# Altium schematic symbol library Converter_DCDC.SchLib: 658 symbols (part 2 of 7)
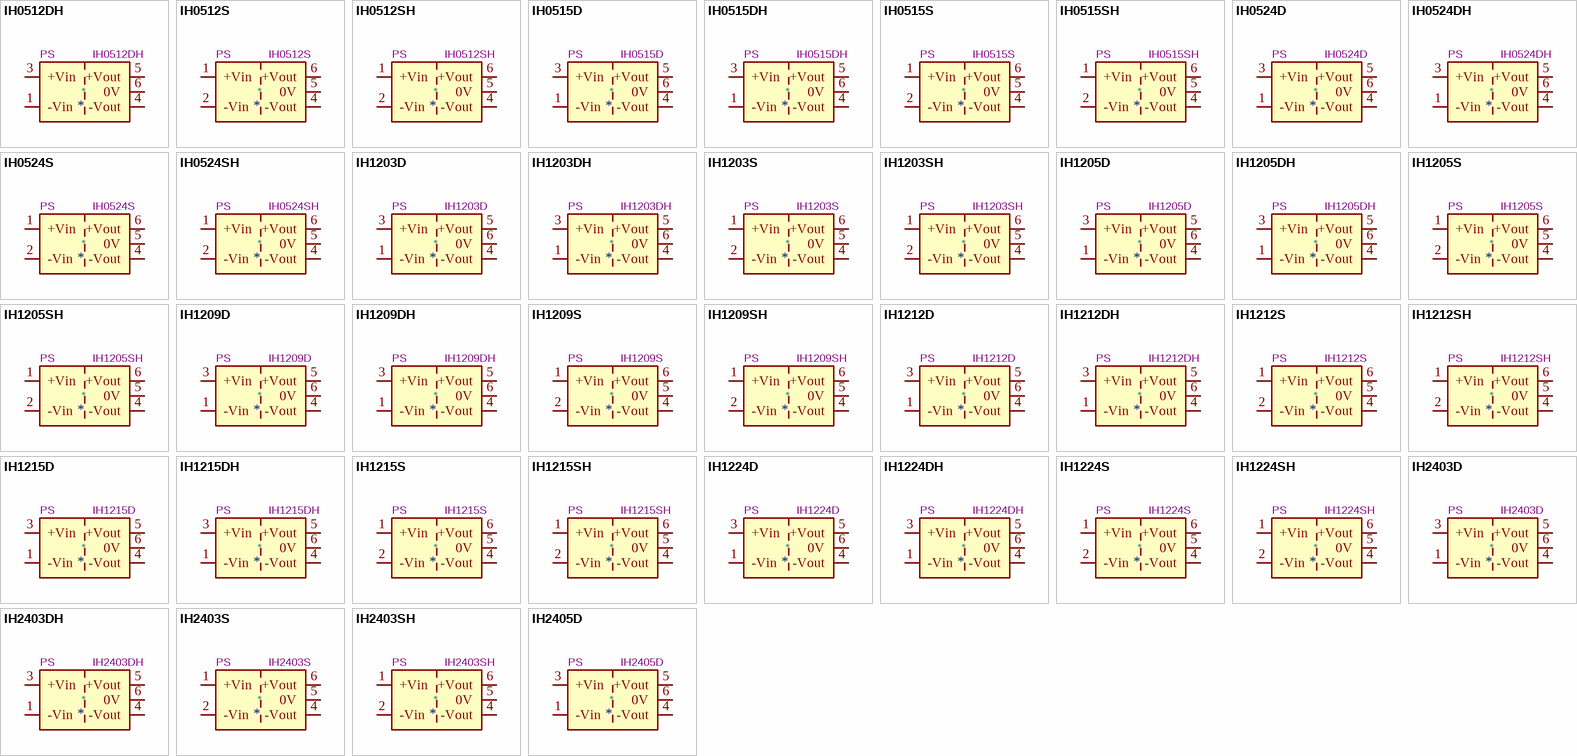
[diagram p17: symbols IH0512DH to IH2405D]

## IH1224DH
designator *  value IH1224DH  Reference: PS
ki_keywords: XP_POWER DC/DC isolated Converter module; ki_description: XP Power 2W, 3000-6000 VDC Isolated DC/DC Converter Module, Dual Output Voltage ±24V, ±42mA, 12V Input Voltage, DIP; ki_fp_filters: *XP?POWER?IHxxxxDH*; Footprint: Converter_DCDC:Converter_DCDC_XP_POWER-IHxxxxDH_THT; Datasheet: https://www.xppower.com/pdfs/SF_IH.pdf
pins: 1 -Vin, 2 NC hidden, 3 +Vin, 4 -Vout, 5 +Vout, 6 0V

## IH1224S
designator *  value IH1224S  Reference: PS
ki_keywords: XP_POWER DC/DC isolated Converter module; ki_description: XP Power 2W, 1000 VDC Isolated DC/DC Converter Module, Dual Output Voltage ±24V, ±42mA, 12V Input Voltage, SIP; ki_fp_filters: *XP?POWER?IHxxxxS*; Footprint: Converter_DCDC:Converter_DCDC_XP_POWER-IHxxxxS_THT; Datasheet: https://www.xppower.com/pdfs/SF_IH.pdf
pins: 1 +Vin, 2 -Vin, 4 -Vout, 5 0V, 6 +Vout

## IH1224SH
designator *  value IH1224SH  Reference: PS
ki_keywords: XP_POWER DC/DC isolated Converter module; ki_description: XP Power 2W, 3000-6000 VDC Isolated DC/DC Converter Module, Dual Output Voltage ±24V, ±42mA, 12V Input Voltage, SIP; ki_fp_filters: *XP?POWER?IHxxxxSH*; Footprint: Converter_DCDC:Converter_DCDC_XP_POWER-IHxxxxSH_THT; Datasheet: https://www.xppower.com/pdfs/SF_IH.pdf
pins: 1 +Vin, 2 -Vin, 4 -Vout, 5 0V, 6 +Vout

## IH2403D
designator *  value IH2403D  Reference: PS
ki_keywords: XP_POWER DC/DC isolated Converter module; ki_description: XP Power 2W, 1000 VDC Isolated DC/DC Converter Module, Dual Output Voltage ±3.3V, ±200mA, 24V Input Voltage, DIP; ki_fp_filters: *XP?POWER?IHxxxxD*; Footprint: Converter_DCDC:Converter_DCDC_XP_POWER-IHxxxxD_THT; Datasheet: https://www.xppower.com/pdfs/SF_IH.pdf
pins: 1 -Vin, 2 NC hidden, 3 +Vin, 4 -Vout, 5 +Vout, 6 0V

## IH2403DH
designator *  value IH2403DH  Reference: PS
ki_keywords: XP_POWER DC/DC isolated Converter module; ki_description: XP Power 2W, 3000-6000 VDC Isolated DC/DC Converter Module, Dual Output Voltage ±3.3V, ±200mA, 24V Input Voltage, DIP; ki_fp_filters: *XP?POWER?IHxxxxDH*; Footprint: Converter_DCDC:Converter_DCDC_XP_POWER-IHxxxxDH_THT; Datasheet: https://www.xppower.com/pdfs/SF_IH.pdf
pins: 1 -Vin, 2 NC hidden, 3 +Vin, 4 -Vout, 5 +Vout, 6 0V

## IH2403S
designator *  value IH2403S  Reference: PS
ki_keywords: XP_POWER DC/DC isolated Converter module; ki_description: XP Power 2W, 1000 VDC Isolated DC/DC Converter Module, Dual Output Voltage ±3.3V, ±200mA, 24V Input Voltage, SIP; ki_fp_filters: *XP?POWER?IHxxxxS*; Footprint: Converter_DCDC:Converter_DCDC_XP_POWER-IHxxxxS_THT; Datasheet: https://www.xppower.com/pdfs/SF_IH.pdf
pins: 1 +Vin, 2 -Vin, 4 -Vout, 5 0V, 6 +Vout

## IH2403SH
designator *  value IH2403SH  Reference: PS
ki_keywords: XP_POWER DC/DC isolated Converter module; ki_description: XP Power 2W, 3000-6000 VDC Isolated DC/DC Converter Module, Dual Output Voltage ±3.3V, ±200mA, 24V Input Voltage, SIP; ki_fp_filters: *XP?POWER?IHxxxxSH*; Footprint: Converter_DCDC:Converter_DCDC_XP_POWER-IHxxxxSH_THT; Datasheet: https://www.xppower.com/pdfs/SF_IH.pdf
pins: 1 +Vin, 2 -Vin, 4 -Vout, 5 0V, 6 +Vout

## IH2405D
designator *  value IH2405D  Reference: PS
ki_keywords: XP_POWER DC/DC isolated Converter module; ki_description: XP Power 2W, 1000 VDC Isolated DC/DC Converter Module, Dual Output Voltage ±5V, ±200mA, 24V Input Voltage, DIP; ki_fp_filters: *XP?POWER?IHxxxxD*; Footprint: Converter_DCDC:Converter_DCDC_XP_POWER-IHxxxxD_THT; Datasheet: https://www.xppower.com/pdfs/SF_IH.pdf
pins: 1 -Vin, 2 NC hidden, 3 +Vin, 4 -Vout, 5 +Vout, 6 0V

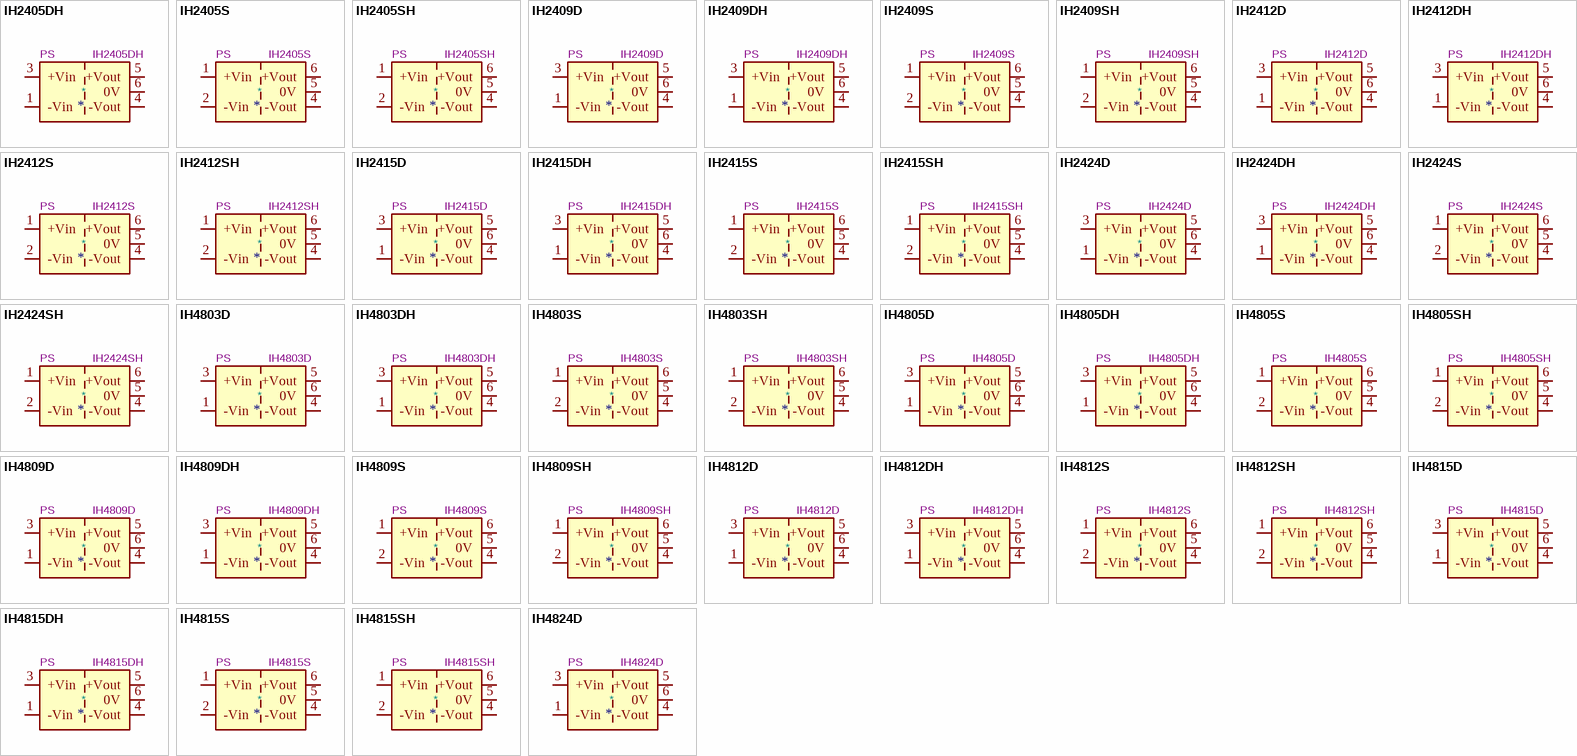
[diagram p3: symbols IH2405DH to IH4824D]

## IH2405DH
designator *  value IH2405DH  Reference: PS
ki_keywords: XP_POWER DC/DC isolated Converter module; ki_description: XP Power 2W, 3000-6000 VDC Isolated DC/DC Converter Module, Dual Output Voltage ±5V, ±200mA, 24V Input Voltage, DIP; ki_fp_filters: *XP?POWER?IHxxxxDH*; Footprint: Converter_DCDC:Converter_DCDC_XP_POWER-IHxxxxDH_THT; Datasheet: https://www.xppower.com/pdfs/SF_IH.pdf
pins: 1 -Vin, 2 NC hidden, 3 +Vin, 4 -Vout, 5 +Vout, 6 0V

## IH2405S
designator *  value IH2405S  Reference: PS
ki_keywords: XP_POWER DC/DC isolated Converter module; ki_description: XP Power 2W, 1000 VDC Isolated DC/DC Converter Module, Dual Output Voltage ±5V, ±200mA, 24V Input Voltage, SIP; ki_fp_filters: *XP?POWER?IHxxxxS*; Footprint: Converter_DCDC:Converter_DCDC_XP_POWER-IHxxxxS_THT; Datasheet: https://www.xppower.com/pdfs/SF_IH.pdf
pins: 1 +Vin, 2 -Vin, 4 -Vout, 5 0V, 6 +Vout

## IH2405SH
designator *  value IH2405SH  Reference: PS
ki_keywords: XP_POWER DC/DC isolated Converter module; ki_description: XP Power 2W, 3000-6000 VDC Isolated DC/DC Converter Module, Dual Output Voltage ±5V, ±200mA, 24V Input Voltage, SIP; ki_fp_filters: *XP?POWER?IHxxxxSH*; Footprint: Converter_DCDC:Converter_DCDC_XP_POWER-IHxxxxSH_THT; Datasheet: https://www.xppower.com/pdfs/SF_IH.pdf
pins: 1 +Vin, 2 -Vin, 4 -Vout, 5 0V, 6 +Vout

## IH2409D
designator *  value IH2409D  Reference: PS
ki_keywords: XP_POWER DC/DC isolated Converter module; ki_description: XP Power 2W, 1000 VDC Isolated DC/DC Converter Module, Dual Output Voltage ±9V, ±111mA, 24V Input Voltage, DIP; ki_fp_filters: *XP?POWER?IHxxxxD*; Footprint: Converter_DCDC:Converter_DCDC_XP_POWER-IHxxxxD_THT; Datasheet: https://www.xppower.com/pdfs/SF_IH.pdf
pins: 1 -Vin, 2 NC hidden, 3 +Vin, 4 -Vout, 5 +Vout, 6 0V

## IH2409DH
designator *  value IH2409DH  Reference: PS
ki_keywords: XP_POWER DC/DC isolated Converter module; ki_description: XP Power 2W, 3000-6000 VDC Isolated DC/DC Converter Module, Dual Output Voltage ±9V, ±111mA, 24V Input Voltage, DIP; ki_fp_filters: *XP?POWER?IHxxxxDH*; Footprint: Converter_DCDC:Converter_DCDC_XP_POWER-IHxxxxDH_THT; Datasheet: https://www.xppower.com/pdfs/SF_IH.pdf
pins: 1 -Vin, 2 NC hidden, 3 +Vin, 4 -Vout, 5 +Vout, 6 0V

## IH2409S
designator *  value IH2409S  Reference: PS
ki_keywords: XP_POWER DC/DC isolated Converter module; ki_description: XP Power 2W, 1000 VDC Isolated DC/DC Converter Module, Dual Output Voltage ±9V, ±111mA, 24V Input Voltage, SIP; ki_fp_filters: *XP?POWER?IHxxxxS*; Footprint: Converter_DCDC:Converter_DCDC_XP_POWER-IHxxxxS_THT; Datasheet: https://www.xppower.com/pdfs/SF_IH.pdf
pins: 1 +Vin, 2 -Vin, 4 -Vout, 5 0V, 6 +Vout

## IH2409SH
designator *  value IH2409SH  Reference: PS
ki_keywords: XP_POWER DC/DC isolated Converter module; ki_description: XP Power 2W, 3000-6000 VDC Isolated DC/DC Converter Module, Dual Output Voltage ±9V, ±111mA, 24V Input Voltage, SIP; ki_fp_filters: *XP?POWER?IHxxxxSH*; Footprint: Converter_DCDC:Converter_DCDC_XP_POWER-IHxxxxSH_THT; Datasheet: https://www.xppower.com/pdfs/SF_IH.pdf
pins: 1 +Vin, 2 -Vin, 4 -Vout, 5 0V, 6 +Vout

## IH2412D
designator *  value IH2412D  Reference: PS
ki_keywords: XP_POWER DC/DC isolated Converter module; ki_description: XP Power 2W, 1000 VDC Isolated DC/DC Converter Module, Dual Output Voltage ±12V, ±84mA, 24V Input Voltage, DIP; ki_fp_filters: *XP?POWER?IHxxxxD*; Footprint: Converter_DCDC:Converter_DCDC_XP_POWER-IHxxxxD_THT; Datasheet: https://www.xppower.com/pdfs/SF_IH.pdf
pins: 1 -Vin, 2 NC hidden, 3 +Vin, 4 -Vout, 5 +Vout, 6 0V

## IH2412DH
designator *  value IH2412DH  Reference: PS
ki_keywords: XP_POWER DC/DC isolated Converter module; ki_description: XP Power 2W, 3000-6000 VDC Isolated DC/DC Converter Module, Dual Output Voltage ±12V, ±84mA, 24V Input Voltage, DIP; ki_fp_filters: *XP?POWER?IHxxxxDH*; Footprint: Converter_DCDC:Converter_DCDC_XP_POWER-IHxxxxDH_THT; Datasheet: https://www.xppower.com/pdfs/SF_IH.pdf
pins: 1 -Vin, 2 NC hidden, 3 +Vin, 4 -Vout, 5 +Vout, 6 0V

## IH2412S
designator *  value IH2412S  Reference: PS
ki_keywords: XP_POWER DC/DC isolated Converter module; ki_description: XP Power 2W, 1000 VDC Isolated DC/DC Converter Module, Dual Output Voltage ±12V, ±84mA, 24V Input Voltage, SIP; ki_fp_filters: *XP?POWER?IHxxxxS*; Footprint: Converter_DCDC:Converter_DCDC_XP_POWER-IHxxxxS_THT; Datasheet: https://www.xppower.com/pdfs/SF_IH.pdf
pins: 1 +Vin, 2 -Vin, 4 -Vout, 5 0V, 6 +Vout

## IH2412SH
designator *  value IH2412SH  Reference: PS
ki_keywords: XP_POWER DC/DC isolated Converter module; ki_description: XP Power 2W, 3000-6000 VDC Isolated DC/DC Converter Module, Dual Output Voltage ±12V, ±84mA, 24V Input Voltage, SIP; ki_fp_filters: *XP?POWER?IHxxxxSH*; Footprint: Converter_DCDC:Converter_DCDC_XP_POWER-IHxxxxSH_THT; Datasheet: https://www.xppower.com/pdfs/SF_IH.pdf
pins: 1 +Vin, 2 -Vin, 4 -Vout, 5 0V, 6 +Vout

## IH2415D
designator *  value IH2415D  Reference: PS
ki_keywords: XP_POWER DC/DC isolated Converter module; ki_description: XP Power 2W, 1000 VDC Isolated DC/DC Converter Module, Dual Output Voltage ±15V, ±66mA, 24V Input Voltage, DIP; ki_fp_filters: *XP?POWER?IHxxxxD*; Footprint: Converter_DCDC:Converter_DCDC_XP_POWER-IHxxxxD_THT; Datasheet: https://www.xppower.com/pdfs/SF_IH.pdf
pins: 1 -Vin, 2 NC hidden, 3 +Vin, 4 -Vout, 5 +Vout, 6 0V

## IH2415DH
designator *  value IH2415DH  Reference: PS
ki_keywords: XP_POWER DC/DC isolated Converter module; ki_description: XP Power 2W, 3000-6000 VDC Isolated DC/DC Converter Module, Dual Output Voltage ±15V, ±66mA, 24V Input Voltage, DIP; ki_fp_filters: *XP?POWER?IHxxxxDH*; Footprint: Converter_DCDC:Converter_DCDC_XP_POWER-IHxxxxDH_THT; Datasheet: https://www.xppower.com/pdfs/SF_IH.pdf
pins: 1 -Vin, 2 NC hidden, 3 +Vin, 4 -Vout, 5 +Vout, 6 0V

## IH2415S
designator *  value IH2415S  Reference: PS
ki_keywords: XP_POWER DC/DC isolated Converter module; ki_description: XP Power 2W, 1000 VDC Isolated DC/DC Converter Module, Dual Output Voltage ±15V, ±66mA, 24V Input Voltage, SIP; ki_fp_filters: *XP?POWER?IHxxxxS*; Footprint: Converter_DCDC:Converter_DCDC_XP_POWER-IHxxxxS_THT; Datasheet: https://www.xppower.com/pdfs/SF_IH.pdf
pins: 1 +Vin, 2 -Vin, 4 -Vout, 5 0V, 6 +Vout

## IH2415SH
designator *  value IH2415SH  Reference: PS
ki_keywords: XP_POWER DC/DC isolated Converter module; ki_description: XP Power 2W, 3000-6000 VDC Isolated DC/DC Converter Module, Dual Output Voltage ±15V, ±66mA, 24V Input Voltage, SIP; ki_fp_filters: *XP?POWER?IHxxxxSH*; Footprint: Converter_DCDC:Converter_DCDC_XP_POWER-IHxxxxSH_THT; Datasheet: https://www.xppower.com/pdfs/SF_IH.pdf
pins: 1 +Vin, 2 -Vin, 4 -Vout, 5 0V, 6 +Vout

## IH2424D
designator *  value IH2424D  Reference: PS
ki_keywords: XP_POWER DC/DC isolated Converter module; ki_description: XP Power 2W, 1000 VDC Isolated DC/DC Converter Module, Dual Output Voltage ±24V, ±42mA, 24V Input Voltage, DIP; ki_fp_filters: *XP?POWER?IHxxxxD*; Footprint: Converter_DCDC:Converter_DCDC_XP_POWER-IHxxxxD_THT; Datasheet: https://www.xppower.com/pdfs/SF_IH.pdf
pins: 1 -Vin, 2 NC hidden, 3 +Vin, 4 -Vout, 5 +Vout, 6 0V

## IH2424DH
designator *  value IH2424DH  Reference: PS
ki_keywords: XP_POWER DC/DC isolated Converter module; ki_description: XP Power 2W, 3000-6000 VDC Isolated DC/DC Converter Module, Dual Output Voltage ±24V, ±42mA, 24V Input Voltage, DIP; ki_fp_filters: *XP?POWER?IHxxxxDH*; Footprint: Converter_DCDC:Converter_DCDC_XP_POWER-IHxxxxDH_THT; Datasheet: https://www.xppower.com/pdfs/SF_IH.pdf
pins: 1 -Vin, 2 NC hidden, 3 +Vin, 4 -Vout, 5 +Vout, 6 0V

## IH2424S
designator *  value IH2424S  Reference: PS
ki_keywords: XP_POWER DC/DC isolated Converter module; ki_description: XP Power 2W, 1000 VDC Isolated DC/DC Converter Module, Dual Output Voltage ±24V, ±42mA, 24V Input Voltage, SIP; ki_fp_filters: *XP?POWER?IHxxxxS*; Footprint: Converter_DCDC:Converter_DCDC_XP_POWER-IHxxxxS_THT; Datasheet: https://www.xppower.com/pdfs/SF_IH.pdf
pins: 1 +Vin, 2 -Vin, 4 -Vout, 5 0V, 6 +Vout

## IH2424SH
designator *  value IH2424SH  Reference: PS
ki_keywords: XP_POWER DC/DC isolated Converter module; ki_description: XP Power 2W, 3000-6000 VDC Isolated DC/DC Converter Module, Dual Output Voltage ±24V, ±42mA, 24V Input Voltage, SIP; ki_fp_filters: *XP?POWER?IHxxxxSH*; Footprint: Converter_DCDC:Converter_DCDC_XP_POWER-IHxxxxSH_THT; Datasheet: https://www.xppower.com/pdfs/SF_IH.pdf
pins: 1 +Vin, 2 -Vin, 4 -Vout, 5 0V, 6 +Vout

## IH4803D
designator *  value IH4803D  Reference: PS
ki_keywords: XP_POWER DC/DC isolated Converter module; ki_description: XP Power 2W, 1000 VDC Isolated DC/DC Converter Module, Dual Output Voltage ±3.3V, ±200mA, 48V Input Voltage, DIP; ki_fp_filters: *XP?POWER?IHxxxxD*; Footprint: Converter_DCDC:Converter_DCDC_XP_POWER-IHxxxxD_THT; Datasheet: https://www.xppower.com/pdfs/SF_IH.pdf
pins: 1 -Vin, 2 NC hidden, 3 +Vin, 4 -Vout, 5 +Vout, 6 0V

## IH4803DH
designator *  value IH4803DH  Reference: PS
ki_keywords: XP_POWER DC/DC isolated Converter module; ki_description: XP Power 2W, 3000-6000 VDC Isolated DC/DC Converter Module, Dual Output Voltage ±3.3V, ±200mA, 48V Input Voltage, DIP; ki_fp_filters: *XP?POWER?IHxxxxDH*; Footprint: Converter_DCDC:Converter_DCDC_XP_POWER-IHxxxxDH_THT; Datasheet: https://www.xppower.com/pdfs/SF_IH.pdf
pins: 1 -Vin, 2 NC hidden, 3 +Vin, 4 -Vout, 5 +Vout, 6 0V

## IH4803S
designator *  value IH4803S  Reference: PS
ki_keywords: XP_POWER DC/DC isolated Converter module; ki_description: XP Power 2W, 1000 VDC Isolated DC/DC Converter Module, Dual Output Voltage ±3.3V, ±200mA, 48V Input Voltage, SIP; ki_fp_filters: *XP?POWER?IHxxxxS*; Footprint: Converter_DCDC:Converter_DCDC_XP_POWER-IHxxxxS_THT; Datasheet: https://www.xppower.com/pdfs/SF_IH.pdf
pins: 1 +Vin, 2 -Vin, 4 -Vout, 5 0V, 6 +Vout

## IH4803SH
designator *  value IH4803SH  Reference: PS
ki_keywords: XP_POWER DC/DC isolated Converter module; ki_description: XP Power 2W, 3000-6000 VDC Isolated DC/DC Converter Module, Dual Output Voltage ±3.3V, ±200mA, 48V Input Voltage, SIP; ki_fp_filters: *XP?POWER?IHxxxxSH*; Footprint: Converter_DCDC:Converter_DCDC_XP_POWER-IHxxxxSH_THT; Datasheet: https://www.xppower.com/pdfs/SF_IH.pdf
pins: 1 +Vin, 2 -Vin, 4 -Vout, 5 0V, 6 +Vout

## IH4805D
designator *  value IH4805D  Reference: PS
ki_keywords: XP_POWER DC/DC isolated Converter module; ki_description: XP Power 2W, 1000 VDC Isolated DC/DC Converter Module, Dual Output Voltage ±5V, ±200mA, 48V Input Voltage, DIP; ki_fp_filters: *XP?POWER?IHxxxxD*; Footprint: Converter_DCDC:Converter_DCDC_XP_POWER-IHxxxxD_THT; Datasheet: https://www.xppower.com/pdfs/SF_IH.pdf
pins: 1 -Vin, 2 NC hidden, 3 +Vin, 4 -Vout, 5 +Vout, 6 0V

## IH4805DH
designator *  value IH4805DH  Reference: PS
ki_keywords: XP_POWER DC/DC isolated Converter module; ki_description: XP Power 2W, 3000-6000 VDC Isolated DC/DC Converter Module, Dual Output Voltage ±5V, ±200mA, 48V Input Voltage, DIP; ki_fp_filters: *XP?POWER?IHxxxxDH*; Footprint: Converter_DCDC:Converter_DCDC_XP_POWER-IHxxxxDH_THT; Datasheet: https://www.xppower.com/pdfs/SF_IH.pdf
pins: 1 -Vin, 2 NC hidden, 3 +Vin, 4 -Vout, 5 +Vout, 6 0V

## IH4805S
designator *  value IH4805S  Reference: PS
ki_keywords: XP_POWER DC/DC isolated Converter module; ki_description: XP Power 2W, 1000 VDC Isolated DC/DC Converter Module, Dual Output Voltage ±5V, ±200mA, 48V Input Voltage, SIP; ki_fp_filters: *XP?POWER?IHxxxxS*; Footprint: Converter_DCDC:Converter_DCDC_XP_POWER-IHxxxxS_THT; Datasheet: https://www.xppower.com/pdfs/SF_IH.pdf
pins: 1 +Vin, 2 -Vin, 4 -Vout, 5 0V, 6 +Vout

## IH4805SH
designator *  value IH4805SH  Reference: PS
ki_keywords: XP_POWER DC/DC isolated Converter module; ki_description: XP Power 2W, 3000-6000 VDC Isolated DC/DC Converter Module, Dual Output Voltage ±5V, ±200mA, 48V Input Voltage, SIP; ki_fp_filters: *XP?POWER?IHxxxxSH*; Footprint: Converter_DCDC:Converter_DCDC_XP_POWER-IHxxxxSH_THT; Datasheet: https://www.xppower.com/pdfs/SF_IH.pdf
pins: 1 +Vin, 2 -Vin, 4 -Vout, 5 0V, 6 +Vout

## IH4809D
designator *  value IH4809D  Reference: PS
ki_keywords: XP_POWER DC/DC isolated Converter module; ki_description: XP Power 2W, 1000 VDC Isolated DC/DC Converter Module, Dual Output Voltage ±9V, ±111mA, 48V Input Voltage, DIP; ki_fp_filters: *XP?POWER?IHxxxxD*; Footprint: Converter_DCDC:Converter_DCDC_XP_POWER-IHxxxxD_THT; Datasheet: https://www.xppower.com/pdfs/SF_IH.pdf
pins: 1 -Vin, 2 NC hidden, 3 +Vin, 4 -Vout, 5 +Vout, 6 0V

## IH4809DH
designator *  value IH4809DH  Reference: PS
ki_keywords: XP_POWER DC/DC isolated Converter module; ki_description: XP Power 2W, 3000-6000 VDC Isolated DC/DC Converter Module, Dual Output Voltage ±9V, ±111mA, 48V Input Voltage, DIP; ki_fp_filters: *XP?POWER?IHxxxxDH*; Footprint: Converter_DCDC:Converter_DCDC_XP_POWER-IHxxxxDH_THT; Datasheet: https://www.xppower.com/pdfs/SF_IH.pdf
pins: 1 -Vin, 2 NC hidden, 3 +Vin, 4 -Vout, 5 +Vout, 6 0V

## IH4809S
designator *  value IH4809S  Reference: PS
ki_keywords: XP_POWER DC/DC isolated Converter module; ki_description: XP Power 2W, 1000 VDC Isolated DC/DC Converter Module, Dual Output Voltage ±9V, ±111mA, 48V Input Voltage, SIP; ki_fp_filters: *XP?POWER?IHxxxxS*; Footprint: Converter_DCDC:Converter_DCDC_XP_POWER-IHxxxxS_THT; Datasheet: https://www.xppower.com/pdfs/SF_IH.pdf
pins: 1 +Vin, 2 -Vin, 4 -Vout, 5 0V, 6 +Vout

## IH4809SH
designator *  value IH4809SH  Reference: PS
ki_keywords: XP_POWER DC/DC isolated Converter module; ki_description: XP Power 2W, 3000-6000 VDC Isolated DC/DC Converter Module, Dual Output Voltage ±9V, ±111mA, 48V Input Voltage, SIP; ki_fp_filters: *XP?POWER?IHxxxxSH*; Footprint: Converter_DCDC:Converter_DCDC_XP_POWER-IHxxxxSH_THT; Datasheet: https://www.xppower.com/pdfs/SF_IH.pdf
pins: 1 +Vin, 2 -Vin, 4 -Vout, 5 0V, 6 +Vout

## IH4812D
designator *  value IH4812D  Reference: PS
ki_keywords: XP_POWER DC/DC isolated Converter module; ki_description: XP Power 2W, 1000 VDC Isolated DC/DC Converter Module, Dual Output Voltage ±12V, ±84mA, 48V Input Voltage, DIP; ki_fp_filters: *XP?POWER?IHxxxxD*; Footprint: Converter_DCDC:Converter_DCDC_XP_POWER-IHxxxxD_THT; Datasheet: https://www.xppower.com/pdfs/SF_IH.pdf
pins: 1 -Vin, 2 NC hidden, 3 +Vin, 4 -Vout, 5 +Vout, 6 0V

## IH4812DH
designator *  value IH4812DH  Reference: PS
ki_keywords: XP_POWER DC/DC isolated Converter module; ki_description: XP Power 2W, 3000-6000 VDC Isolated DC/DC Converter Module, Dual Output Voltage ±12V, ±84mA, 48V Input Voltage, DIP; ki_fp_filters: *XP?POWER?IHxxxxDH*; Footprint: Converter_DCDC:Converter_DCDC_XP_POWER-IHxxxxDH_THT; Datasheet: https://www.xppower.com/pdfs/SF_IH.pdf
pins: 1 -Vin, 2 NC hidden, 3 +Vin, 4 -Vout, 5 +Vout, 6 0V

## IH4812S
designator *  value IH4812S  Reference: PS
ki_keywords: XP_POWER DC/DC isolated Converter module; ki_description: XP Power 2W, 1000 VDC Isolated DC/DC Converter Module, Dual Output Voltage ±12V, ±84mA, 48V Input Voltage, SIP; ki_fp_filters: *XP?POWER?IHxxxxS*; Footprint: Converter_DCDC:Converter_DCDC_XP_POWER-IHxxxxS_THT; Datasheet: https://www.xppower.com/pdfs/SF_IH.pdf
pins: 1 +Vin, 2 -Vin, 4 -Vout, 5 0V, 6 +Vout

## IH4812SH
designator *  value IH4812SH  Reference: PS
ki_keywords: XP_POWER DC/DC isolated Converter module; ki_description: XP Power 2W, 3000-6000 VDC Isolated DC/DC Converter Module, Dual Output Voltage ±12V, ±84mA, 48V Input Voltage, SIP; ki_fp_filters: *XP?POWER?IHxxxxSH*; Footprint: Converter_DCDC:Converter_DCDC_XP_POWER-IHxxxxSH_THT; Datasheet: https://www.xppower.com/pdfs/SF_IH.pdf
pins: 1 +Vin, 2 -Vin, 4 -Vout, 5 0V, 6 +Vout

## IH4815D
designator *  value IH4815D  Reference: PS
ki_keywords: XP_POWER DC/DC isolated Converter module; ki_description: XP Power 2W, 1000 VDC Isolated DC/DC Converter Module, Dual Output Voltage ±15V, ±66mA, 48V Input Voltage, DIP; ki_fp_filters: *XP?POWER?IHxxxxD*; Footprint: Converter_DCDC:Converter_DCDC_XP_POWER-IHxxxxD_THT; Datasheet: https://www.xppower.com/pdfs/SF_IH.pdf
pins: 1 -Vin, 2 NC hidden, 3 +Vin, 4 -Vout, 5 +Vout, 6 0V

## IH4815DH
designator *  value IH4815DH  Reference: PS
ki_keywords: XP_POWER DC/DC isolated Converter module; ki_description: XP Power 2W, 3000-6000 VDC Isolated DC/DC Converter Module, Dual Output Voltage ±15V, ±66mA, 48V Input Voltage, DIP; ki_fp_filters: *XP?POWER?IHxxxxDH*; Footprint: Converter_DCDC:Converter_DCDC_XP_POWER-IHxxxxDH_THT; Datasheet: https://www.xppower.com/pdfs/SF_IH.pdf
pins: 1 -Vin, 2 NC hidden, 3 +Vin, 4 -Vout, 5 +Vout, 6 0V

## IH4815S
designator *  value IH4815S  Reference: PS
ki_keywords: XP_POWER DC/DC isolated Converter module; ki_description: XP Power 2W, 1000 VDC Isolated DC/DC Converter Module, Dual Output Voltage ±15V, ±66mA, 48V Input Voltage, SIP; ki_fp_filters: *XP?POWER?IHxxxxS*; Footprint: Converter_DCDC:Converter_DCDC_XP_POWER-IHxxxxS_THT; Datasheet: https://www.xppower.com/pdfs/SF_IH.pdf
pins: 1 +Vin, 2 -Vin, 4 -Vout, 5 0V, 6 +Vout

## IH4815SH
designator *  value IH4815SH  Reference: PS
ki_keywords: XP_POWER DC/DC isolated Converter module; ki_description: XP Power 2W, 3000-6000 VDC Isolated DC/DC Converter Module, Dual Output Voltage ±15V, ±66mA, 48V Input Voltage, SIP; ki_fp_filters: *XP?POWER?IHxxxxSH*; Footprint: Converter_DCDC:Converter_DCDC_XP_POWER-IHxxxxSH_THT; Datasheet: https://www.xppower.com/pdfs/SF_IH.pdf
pins: 1 +Vin, 2 -Vin, 4 -Vout, 5 0V, 6 +Vout

## IH4824D
designator *  value IH4824D  Reference: PS
ki_keywords: XP_POWER DC/DC isolated Converter module; ki_description: XP Power 2W, 1000 VDC Isolated DC/DC Converter Module, Dual Output Voltage ±24V, ±42mA, 48V Input Voltage, DIP; ki_fp_filters: *XP?POWER?IHxxxxD*; Footprint: Converter_DCDC:Converter_DCDC_XP_POWER-IHxxxxD_THT; Datasheet: https://www.xppower.com/pdfs/SF_IH.pdf
pins: 1 -Vin, 2 NC hidden, 3 +Vin, 4 -Vout, 5 +Vout, 6 0V

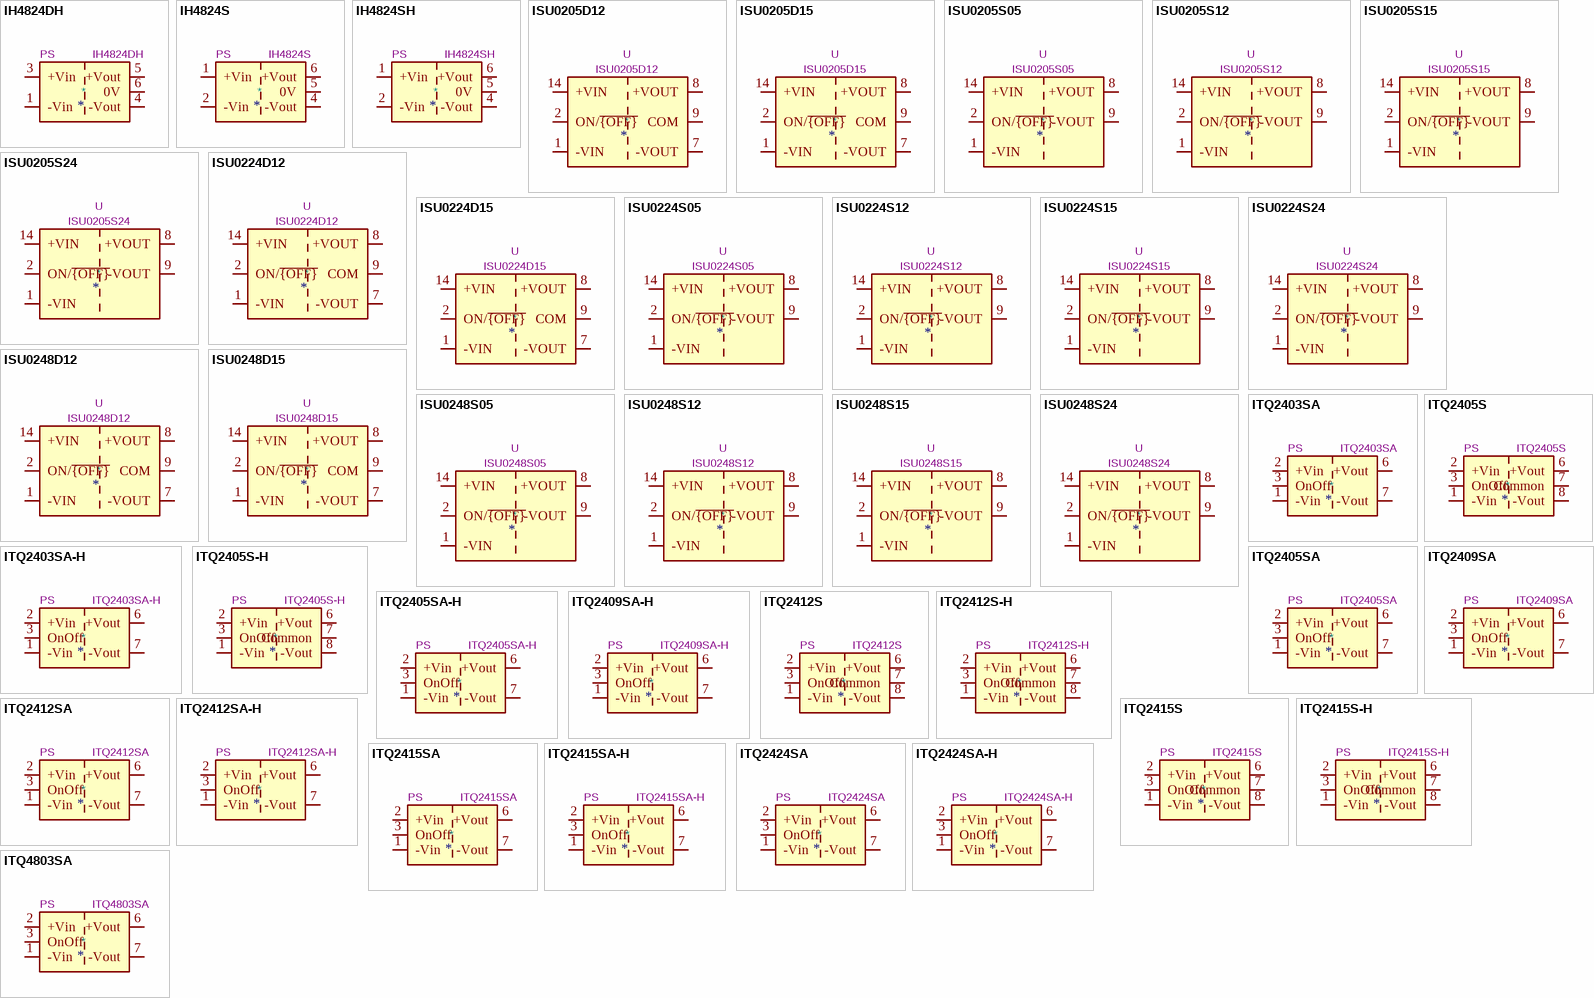
[diagram p4: symbols IH4824DH to ITQ4803SA]

## IH4824DH
designator *  value IH4824DH  Reference: PS
ki_keywords: XP_POWER DC/DC isolated Converter module; ki_description: XP Power 2W, 3000-6000 VDC Isolated DC/DC Converter Module, Dual Output Voltage ±24V, ±42mA, 48V Input Voltage, DIP; ki_fp_filters: *XP?POWER?IHxxxxDH*; Footprint: Converter_DCDC:Converter_DCDC_XP_POWER-IHxxxxDH_THT; Datasheet: https://www.xppower.com/pdfs/SF_IH.pdf
pins: 1 -Vin, 2 NC hidden, 3 +Vin, 4 -Vout, 5 +Vout, 6 0V

## IH4824S
designator *  value IH4824S  Reference: PS
ki_keywords: XP_POWER DC/DC isolated Converter module; ki_description: XP Power 2W, 1000 VDC Isolated DC/DC Converter Module, Dual Output Voltage ±24V, ±42mA, 48V Input Voltage, SIP; ki_fp_filters: *XP?POWER?IHxxxxS*; Footprint: Converter_DCDC:Converter_DCDC_XP_POWER-IHxxxxS_THT; Datasheet: https://www.xppower.com/pdfs/SF_IH.pdf
pins: 1 +Vin, 2 -Vin, 4 -Vout, 5 0V, 6 +Vout

## IH4824SH
designator *  value IH4824SH  Reference: PS
ki_keywords: XP_POWER DC/DC isolated Converter module; ki_description: XP Power 2W, 3000-6000 VDC Isolated DC/DC Converter Module, Dual Output Voltage ±24V, ±42mA, 48V Input Voltage, SIP; ki_fp_filters: *XP?POWER?IHxxxxSH*; Footprint: Converter_DCDC:Converter_DCDC_XP_POWER-IHxxxxSH_THT; Datasheet: https://www.xppower.com/pdfs/SF_IH.pdf
pins: 1 +Vin, 2 -Vin, 4 -Vout, 5 0V, 6 +Vout

## ISU0205D12
designator *  value ISU0205D12  Reference: U
ki_keywords: DC/DC Converter dual; ki_description: XP Power 2W Isolated DC/DC Dual Supply Converter Module, ±12V Output Voltage, 4.5-12V Input Voltage; ki_fp_filters: *XP?POWER*ISU02*SMD*; Footprint: Converter_DCDC:Converter_DCDC_XP_POWER-ISU02_SMD; Datasheet: https://www.xppower.com/Portals/0/pdfs/SF_ISU02.pdf
pins: 1 -VIN, 2 ON/~{{OFF}}, 6 COM hidden, 7 -VOUT, 8 +VOUT, 9 COM, 14 +VIN

## ISU0205D15
designator *  value ISU0205D15  Reference: U
ki_keywords: DC/DC Converter dual; ki_description: XP Power 2W Isolated DC/DC Dual Supply Converter Module, ±15V Output Voltage, 4.5-12V Input Voltage; ki_fp_filters: *XP?POWER*ISU02*SMD*; Footprint: Converter_DCDC:Converter_DCDC_XP_POWER-ISU02_SMD; Datasheet: https://www.xppower.com/Portals/0/pdfs/SF_ISU02.pdf
pins: 1 -VIN, 2 ON/~{{OFF}}, 6 COM hidden, 7 -VOUT, 8 +VOUT, 9 COM, 14 +VIN

## ISU0205S05
designator *  value ISU0205S05  Reference: U
ki_keywords: DC/DC Converter; ki_description: XP Power 2W Isolated DC/DC Converter Module, 5V Output Voltage, 4.5-12V Input Voltage; ki_fp_filters: *XP?POWER*ISU02*SMD*; Footprint: Converter_DCDC:Converter_DCDC_XP_POWER-ISU02_SMD; Datasheet: https://www.xppower.com/Portals/0/pdfs/SF_ISU02.pdf
pins: 1 -VIN, 2 ON/~{{OFF}}, 6 NC hidden, 7 NC hidden, 8 +VOUT, 9 -VOUT, 14 +VIN

## ISU0205S12
designator *  value ISU0205S12  Reference: U
ki_keywords: DC/DC Converter; ki_description: XP Power 2W Isolated DC/DC Converter Module, 12V Output Voltage, 4.5-12V Input Voltage; ki_fp_filters: *XP?POWER*ISU02*SMD*; Footprint: Converter_DCDC:Converter_DCDC_XP_POWER-ISU02_SMD; Datasheet: https://www.xppower.com/Portals/0/pdfs/SF_ISU02.pdf
pins: 1 -VIN, 2 ON/~{{OFF}}, 6 NC hidden, 7 NC hidden, 8 +VOUT, 9 -VOUT, 14 +VIN

## ISU0205S15
designator *  value ISU0205S15  Reference: U
ki_keywords: DC/DC Converter; ki_description: XP Power 2W Isolated DC/DC Converter Module, 15V Output Voltage, 4.5-12V Input Voltage; ki_fp_filters: *XP?POWER*ISU02*SMD*; Footprint: Converter_DCDC:Converter_DCDC_XP_POWER-ISU02_SMD; Datasheet: https://www.xppower.com/Portals/0/pdfs/SF_ISU02.pdf
pins: 1 -VIN, 2 ON/~{{OFF}}, 6 NC hidden, 7 NC hidden, 8 +VOUT, 9 -VOUT, 14 +VIN

## ISU0205S24
designator *  value ISU0205S24  Reference: U
ki_keywords: DC/DC Converter; ki_description: XP Power 2W Isolated DC/DC Converter Module, 24V Output Voltage, 4.5-12V Input Voltage; ki_fp_filters: *XP?POWER*ISU02*SMD*; Footprint: Converter_DCDC:Converter_DCDC_XP_POWER-ISU02_SMD; Datasheet: https://www.xppower.com/Portals/0/pdfs/SF_ISU02.pdf
pins: 1 -VIN, 2 ON/~{{OFF}}, 6 NC hidden, 7 NC hidden, 8 +VOUT, 9 -VOUT, 14 +VIN

## ISU0224D12
designator *  value ISU0224D12  Reference: U
ki_keywords: DC/DC Converter dual; ki_description: XP Power 2W Isolated DC/DC Dual Supply Converter Module, ±12V Output Voltage, 9-36V Input Voltage; ki_fp_filters: *XP?POWER*ISU02*SMD*; Footprint: Converter_DCDC:Converter_DCDC_XP_POWER-ISU02_SMD; Datasheet: https://www.xppower.com/Portals/0/pdfs/SF_ISU02.pdf
pins: 1 -VIN, 2 ON/~{{OFF}}, 6 COM hidden, 7 -VOUT, 8 +VOUT, 9 COM, 14 +VIN

## ISU0224D15
designator *  value ISU0224D15  Reference: U
ki_keywords: DC/DC Converter dual; ki_description: XP Power 2W Isolated DC/DC Dual Supply Converter Module, ±15V Output Voltage, 9-36V Input Voltage; ki_fp_filters: *XP?POWER*ISU02*SMD*; Footprint: Converter_DCDC:Converter_DCDC_XP_POWER-ISU02_SMD; Datasheet: https://www.xppower.com/Portals/0/pdfs/SF_ISU02.pdf
pins: 1 -VIN, 2 ON/~{{OFF}}, 6 COM hidden, 7 -VOUT, 8 +VOUT, 9 COM, 14 +VIN

## ISU0224S05
designator *  value ISU0224S05  Reference: U
ki_keywords: DC/DC Converter; ki_description: XP Power 2W Isolated DC/DC Converter Module, 5V Output Voltage, 9-36V Input Voltage; ki_fp_filters: *XP?POWER*ISU02*SMD*; Footprint: Converter_DCDC:Converter_DCDC_XP_POWER-ISU02_SMD; Datasheet: https://www.xppower.com/Portals/0/pdfs/SF_ISU02.pdf
pins: 1 -VIN, 2 ON/~{{OFF}}, 6 NC hidden, 7 NC hidden, 8 +VOUT, 9 -VOUT, 14 +VIN

## ISU0224S12
designator *  value ISU0224S12  Reference: U
ki_keywords: DC/DC Converter; ki_description: XP Power 2W Isolated DC/DC Converter Module, 12V Output Voltage, 9-36V Input Voltage; ki_fp_filters: *XP?POWER*ISU02*SMD*; Footprint: Converter_DCDC:Converter_DCDC_XP_POWER-ISU02_SMD; Datasheet: https://www.xppower.com/Portals/0/pdfs/SF_ISU02.pdf
pins: 1 -VIN, 2 ON/~{{OFF}}, 6 NC hidden, 7 NC hidden, 8 +VOUT, 9 -VOUT, 14 +VIN

## ISU0224S15
designator *  value ISU0224S15  Reference: U
ki_keywords: DC/DC Converter; ki_description: XP Power 2W Isolated DC/DC Converter Module, 15V Output Voltage, 9-36V Input Voltage; ki_fp_filters: *XP?POWER*ISU02*SMD*; Footprint: Converter_DCDC:Converter_DCDC_XP_POWER-ISU02_SMD; Datasheet: https://www.xppower.com/Portals/0/pdfs/SF_ISU02.pdf
pins: 1 -VIN, 2 ON/~{{OFF}}, 6 NC hidden, 7 NC hidden, 8 +VOUT, 9 -VOUT, 14 +VIN

## ISU0224S24
designator *  value ISU0224S24  Reference: U
ki_keywords: DC/DC Converter; ki_description: XP Power 2W Isolated DC/DC Converter Module, 24V Output Voltage, 9-36V Input Voltage; ki_fp_filters: *XP?POWER*ISU02*SMD*; Footprint: Converter_DCDC:Converter_DCDC_XP_POWER-ISU02_SMD; Datasheet: https://www.xppower.com/Portals/0/pdfs/SF_ISU02.pdf
pins: 1 -VIN, 2 ON/~{{OFF}}, 6 NC hidden, 7 NC hidden, 8 +VOUT, 9 -VOUT, 14 +VIN

## ISU0248D12
designator *  value ISU0248D12  Reference: U
ki_keywords: DC/DC Converter dual; ki_description: XP Power 2W Isolated DC/DC Dual Supply Converter Module, ±12V Output Voltage, 18-75V Input Voltage; ki_fp_filters: *XP?POWER*ISU02*SMD*; Footprint: Converter_DCDC:Converter_DCDC_XP_POWER-ISU02_SMD; Datasheet: https://www.xppower.com/Portals/0/pdfs/SF_ISU02.pdf
pins: 1 -VIN, 2 ON/~{{OFF}}, 6 COM hidden, 7 -VOUT, 8 +VOUT, 9 COM, 14 +VIN

## ISU0248D15
designator *  value ISU0248D15  Reference: U
ki_keywords: DC/DC Converter dual; ki_description: XP Power 2W Isolated DC/DC Dual Supply Converter Module, ±15V Output Voltage, 18-75V Input Voltage; ki_fp_filters: *XP?POWER*ISU02*SMD*; Footprint: Converter_DCDC:Converter_DCDC_XP_POWER-ISU02_SMD; Datasheet: https://www.xppower.com/Portals/0/pdfs/SF_ISU02.pdf
pins: 1 -VIN, 2 ON/~{{OFF}}, 6 COM hidden, 7 -VOUT, 8 +VOUT, 9 COM, 14 +VIN

## ISU0248S05
designator *  value ISU0248S05  Reference: U
ki_keywords: DC/DC Converter; ki_description: XP Power 2W Isolated DC/DC Converter Module, 5V Output Voltage, 18-75V Input Voltage; ki_fp_filters: *XP?POWER*ISU02*SMD*; Footprint: Converter_DCDC:Converter_DCDC_XP_POWER-ISU02_SMD; Datasheet: https://www.xppower.com/Portals/0/pdfs/SF_ISU02.pdf
pins: 1 -VIN, 2 ON/~{{OFF}}, 6 NC hidden, 7 NC hidden, 8 +VOUT, 9 -VOUT, 14 +VIN

## ISU0248S12
designator *  value ISU0248S12  Reference: U
ki_keywords: DC/DC Converter; ki_description: XP Power 2W Isolated DC/DC Converter Module, 12V Output Voltage, 18-75V Input Voltage; ki_fp_filters: *XP?POWER*ISU02*SMD*; Footprint: Converter_DCDC:Converter_DCDC_XP_POWER-ISU02_SMD; Datasheet: https://www.xppower.com/Portals/0/pdfs/SF_ISU02.pdf
pins: 1 -VIN, 2 ON/~{{OFF}}, 6 NC hidden, 7 NC hidden, 8 +VOUT, 9 -VOUT, 14 +VIN

## ISU0248S15
designator *  value ISU0248S15  Reference: U
ki_keywords: DC/DC Converter; ki_description: XP Power 2W Isolated DC/DC Converter Module, 15V Output Voltage, 18-75V Input Voltage; ki_fp_filters: *XP?POWER*ISU02*SMD*; Footprint: Converter_DCDC:Converter_DCDC_XP_POWER-ISU02_SMD; Datasheet: https://www.xppower.com/Portals/0/pdfs/SF_ISU02.pdf
pins: 1 -VIN, 2 ON/~{{OFF}}, 6 NC hidden, 7 NC hidden, 8 +VOUT, 9 -VOUT, 14 +VIN

## ISU0248S24
designator *  value ISU0248S24  Reference: U
ki_keywords: DC/DC Converter; ki_description: XP Power 2W Isolated DC/DC Converter Module, 24V Output Voltage, 18-75V Input Voltage; ki_fp_filters: *XP?POWER*ISU02*SMD*; Footprint: Converter_DCDC:Converter_DCDC_XP_POWER-ISU02_SMD; Datasheet: https://www.xppower.com/Portals/0/pdfs/SF_ISU02.pdf
pins: 1 -VIN, 2 ON/~{{OFF}}, 6 NC hidden, 7 NC hidden, 8 +VOUT, 9 -VOUT, 14 +VIN

## ITQ2403SA
designator *  value ITQ2403SA  Reference: PS
ki_keywords: XP_POWER DC/DC isolated Converter module; ki_description: XP Power 6W, 1000 VDC Isolated DC/DC Converter Module, Single Output Voltage 3.3V, ±1500mA, 24V Input Voltage, SIP; ki_fp_filters: *XP?POWER?ITxxxxx*; Footprint: Converter_DCDC:Converter_DCDC_XP_POWER-ITxxxxxS_THT; Datasheet: https://www.xppower.com/pdfs/SF_ITQ.pdf
pins: 1 -Vin, 2 +Vin, 3 OnOff, 5 NC hidden, 6 +Vout, 7 -Vout, 8 NC hidden

## ITQ2403SA-H
designator *  value ITQ2403SA-H  Reference: PS
ki_keywords: XP_POWER DC/DC isolated Converter module; ki_description: XP Power 6W, 3000 VDC Isolated DC/DC Converter Module, Single Output Voltage 3.3V, ±1500mA, 24V Input Voltage, SIP; ki_fp_filters: *XP?POWER?ITQxxxxS?H*; Footprint: Converter_DCDC:Converter_DCDC_XP_POWER-ITQxxxxS-H_THT; Datasheet: https://www.xppower.com/pdfs/SF_ITQ.pdf
pins: 1 -Vin, 2 +Vin, 3 OnOff, 6 +Vout, 7 -Vout, 8 NC hidden

## ITQ2405S
designator *  value ITQ2405S  Reference: PS
ki_keywords: XP_POWER DC/DC isolated Converter module; ki_description: XP Power 6W, 1000 VDC Isolated DC/DC Converter Module, Dual Output Voltage ±5V, ±600mA, 24V Input Voltage, SIP; ki_fp_filters: *XP?POWER?ITxxxxx*; Footprint: Converter_DCDC:Converter_DCDC_XP_POWER-ITxxxxxS_THT; Datasheet: https://www.xppower.com/pdfs/SF_ITQ.pdf
pins: 1 -Vin, 2 +Vin, 3 OnOff, 5 NC hidden, 6 +Vout, 7 Common, 8 -Vout

## ITQ2405S-H
designator *  value ITQ2405S-H  Reference: PS
ki_keywords: XP_POWER DC/DC isolated Converter module; ki_description: XP Power 6W, 3000 VDC Isolated DC/DC Converter Module, Dual Output Voltage ±5V, ±600mA, 24V Input Voltage, SIP; ki_fp_filters: *XP?POWER?ITQxxxxS?H*; Footprint: Converter_DCDC:Converter_DCDC_XP_POWER-ITQxxxxS-H_THT; Datasheet: https://www.xppower.com/pdfs/SF_ITQ.pdf
pins: 1 -Vin, 2 +Vin, 3 OnOff, 6 +Vout, 7 Common, 8 -Vout

## ITQ2405SA
designator *  value ITQ2405SA  Reference: PS
ki_keywords: XP_POWER DC/DC isolated Converter module; ki_description: XP Power 6W, 1000 VDC Isolated DC/DC Converter Module, Single Output Voltage 5V, ±1200mA, 24V Input Voltage, SIP; ki_fp_filters: *XP?POWER?ITxxxxx*; Footprint: Converter_DCDC:Converter_DCDC_XP_POWER-ITxxxxxS_THT; Datasheet: https://www.xppower.com/pdfs/SF_ITQ.pdf
pins: 1 -Vin, 2 +Vin, 3 OnOff, 5 NC hidden, 6 +Vout, 7 -Vout, 8 NC hidden

## ITQ2405SA-H
designator *  value ITQ2405SA-H  Reference: PS
ki_keywords: XP_POWER DC/DC isolated Converter module; ki_description: XP Power 6W, 3000 VDC Isolated DC/DC Converter Module, Single Output Voltage 5V, ±1200mA, 24V Input Voltage, SIP; ki_fp_filters: *XP?POWER?ITQxxxxS?H*; Footprint: Converter_DCDC:Converter_DCDC_XP_POWER-ITQxxxxS-H_THT; Datasheet: https://www.xppower.com/pdfs/SF_ITQ.pdf
pins: 1 -Vin, 2 +Vin, 3 OnOff, 6 +Vout, 7 -Vout, 8 NC hidden

## ITQ2409SA
designator *  value ITQ2409SA  Reference: PS
ki_keywords: XP_POWER DC/DC isolated Converter module; ki_description: XP Power 6W, 1000 VDC Isolated DC/DC Converter Module, Single Output Voltage 9V, ±666mA, 24V Input Voltage, SIP; ki_fp_filters: *XP?POWER?ITxxxxx*; Footprint: Converter_DCDC:Converter_DCDC_XP_POWER-ITxxxxxS_THT; Datasheet: https://www.xppower.com/pdfs/SF_ITQ.pdf
pins: 1 -Vin, 2 +Vin, 3 OnOff, 5 NC hidden, 6 +Vout, 7 -Vout, 8 NC hidden

## ITQ2409SA-H
designator *  value ITQ2409SA-H  Reference: PS
ki_keywords: XP_POWER DC/DC isolated Converter module; ki_description: XP Power 6W, 3000 VDC Isolated DC/DC Converter Module, Single Output Voltage 9V, ±666mA, 24V Input Voltage, SIP; ki_fp_filters: *XP?POWER?ITQxxxxS?H*; Footprint: Converter_DCDC:Converter_DCDC_XP_POWER-ITQxxxxS-H_THT; Datasheet: https://www.xppower.com/pdfs/SF_ITQ.pdf
pins: 1 -Vin, 2 +Vin, 3 OnOff, 6 +Vout, 7 -Vout, 8 NC hidden

## ITQ2412S
designator *  value ITQ2412S  Reference: PS
ki_keywords: XP_POWER DC/DC isolated Converter module; ki_description: XP Power 6W, 1000 VDC Isolated DC/DC Converter Module, Dual Output Voltage ±12V, ±250mA, 24V Input Voltage, SIP; ki_fp_filters: *XP?POWER?ITxxxxx*; Footprint: Converter_DCDC:Converter_DCDC_XP_POWER-ITxxxxxS_THT; Datasheet: https://www.xppower.com/pdfs/SF_ITQ.pdf
pins: 1 -Vin, 2 +Vin, 3 OnOff, 5 NC hidden, 6 +Vout, 7 Common, 8 -Vout

## ITQ2412S-H
designator *  value ITQ2412S-H  Reference: PS
ki_keywords: XP_POWER DC/DC isolated Converter module; ki_description: XP Power 6W, 3000 VDC Isolated DC/DC Converter Module, Dual Output Voltage ±12V, ±250mA, 24V Input Voltage, SIP; ki_fp_filters: *XP?POWER?ITQxxxxS?H*; Footprint: Converter_DCDC:Converter_DCDC_XP_POWER-ITQxxxxS-H_THT; Datasheet: https://www.xppower.com/pdfs/SF_ITQ.pdf
pins: 1 -Vin, 2 +Vin, 3 OnOff, 6 +Vout, 7 Common, 8 -Vout

## ITQ2412SA
designator *  value ITQ2412SA  Reference: PS
ki_keywords: XP_POWER DC/DC isolated Converter module; ki_description: XP Power 6W, 1000 VDC Isolated DC/DC Converter Module, Single Output Voltage 12V, ±500mA, 24V Input Voltage, SIP; ki_fp_filters: *XP?POWER?ITxxxxx*; Footprint: Converter_DCDC:Converter_DCDC_XP_POWER-ITxxxxxS_THT; Datasheet: https://www.xppower.com/pdfs/SF_ITQ.pdf
pins: 1 -Vin, 2 +Vin, 3 OnOff, 5 NC hidden, 6 +Vout, 7 -Vout, 8 NC hidden

## ITQ2412SA-H
designator *  value ITQ2412SA-H  Reference: PS
ki_keywords: XP_POWER DC/DC isolated Converter module; ki_description: XP Power 6W, 3000 VDC Isolated DC/DC Converter Module, Single Output Voltage 12V, ±500mA, 24V Input Voltage, SIP; ki_fp_filters: *XP?POWER?ITQxxxxS?H*; Footprint: Converter_DCDC:Converter_DCDC_XP_POWER-ITQxxxxS-H_THT; Datasheet: https://www.xppower.com/pdfs/SF_ITQ.pdf
pins: 1 -Vin, 2 +Vin, 3 OnOff, 6 +Vout, 7 -Vout, 8 NC hidden

## ITQ2415S
designator *  value ITQ2415S  Reference: PS
ki_keywords: XP_POWER DC/DC isolated Converter module; ki_description: XP Power 6W, 1000 VDC Isolated DC/DC Converter Module, Dual Output Voltage ±15V, ±200mA, 24V Input Voltage, SIP; ki_fp_filters: *XP?POWER?ITxxxxx*; Footprint: Converter_DCDC:Converter_DCDC_XP_POWER-ITxxxxxS_THT; Datasheet: https://www.xppower.com/pdfs/SF_ITQ.pdf
pins: 1 -Vin, 2 +Vin, 3 OnOff, 5 NC hidden, 6 +Vout, 7 Common, 8 -Vout

## ITQ2415S-H
designator *  value ITQ2415S-H  Reference: PS
ki_keywords: XP_POWER DC/DC isolated Converter module; ki_description: XP Power 6W, 3000 VDC Isolated DC/DC Converter Module, Dual Output Voltage ±15V, ±200mA, 24V Input Voltage, SIP; ki_fp_filters: *XP?POWER?ITQxxxxS?H*; Footprint: Converter_DCDC:Converter_DCDC_XP_POWER-ITQxxxxS-H_THT; Datasheet: https://www.xppower.com/pdfs/SF_ITQ.pdf
pins: 1 -Vin, 2 +Vin, 3 OnOff, 6 +Vout, 7 Common, 8 -Vout

## ITQ2415SA
designator *  value ITQ2415SA  Reference: PS
ki_keywords: XP_POWER DC/DC isolated Converter module; ki_description: XP Power 6W, 1000 VDC Isolated DC/DC Converter Module, Single Output Voltage 15V, ±400mA, 24V Input Voltage, SIP; ki_fp_filters: *XP?POWER?ITxxxxx*; Footprint: Converter_DCDC:Converter_DCDC_XP_POWER-ITxxxxxS_THT; Datasheet: https://www.xppower.com/pdfs/SF_ITQ.pdf
pins: 1 -Vin, 2 +Vin, 3 OnOff, 5 NC hidden, 6 +Vout, 7 -Vout, 8 NC hidden

## ITQ2415SA-H
designator *  value ITQ2415SA-H  Reference: PS
ki_keywords: XP_POWER DC/DC isolated Converter module; ki_description: XP Power 6W, 3000 VDC Isolated DC/DC Converter Module, Single Output Voltage 15V, ±400mA, 24V Input Voltage, SIP; ki_fp_filters: *XP?POWER?ITQxxxxS?H*; Footprint: Converter_DCDC:Converter_DCDC_XP_POWER-ITQxxxxS-H_THT; Datasheet: https://www.xppower.com/pdfs/SF_ITQ.pdf
pins: 1 -Vin, 2 +Vin, 3 OnOff, 6 +Vout, 7 -Vout, 8 NC hidden

## ITQ2424SA
designator *  value ITQ2424SA  Reference: PS
ki_keywords: XP_POWER DC/DC isolated Converter module; ki_description: XP Power 6W, 1000 VDC Isolated DC/DC Converter Module, Single Output Voltage 24V, ±250mA, 24V Input Voltage, SIP; ki_fp_filters: *XP?POWER?ITxxxxx*; Footprint: Converter_DCDC:Converter_DCDC_XP_POWER-ITxxxxxS_THT; Datasheet: https://www.xppower.com/pdfs/SF_ITQ.pdf
pins: 1 -Vin, 2 +Vin, 3 OnOff, 5 NC hidden, 6 +Vout, 7 -Vout, 8 NC hidden

## ITQ2424SA-H
designator *  value ITQ2424SA-H  Reference: PS
ki_keywords: XP_POWER DC/DC isolated Converter module; ki_description: XP Power 6W, 3000 VDC Isolated DC/DC Converter Module, Single Output Voltage 24V, ±250mA, 24V Input Voltage, SIP; ki_fp_filters: *XP?POWER?ITQxxxxS?H*; Footprint: Converter_DCDC:Converter_DCDC_XP_POWER-ITQxxxxS-H_THT; Datasheet: https://www.xppower.com/pdfs/SF_ITQ.pdf
pins: 1 -Vin, 2 +Vin, 3 OnOff, 6 +Vout, 7 -Vout, 8 NC hidden

## ITQ4803SA
designator *  value ITQ4803SA  Reference: PS
ki_keywords: XP_POWER DC/DC isolated Converter module; ki_description: XP Power 6W, 1000 VDC Isolated DC/DC Converter Module, Single Output Voltage 3.3V, ±1500mA, 48V Input Voltage, SIP; ki_fp_filters: *XP?POWER?ITxxxxx*; Footprint: Converter_DCDC:Converter_DCDC_XP_POWER-ITxxxxxS_THT; Datasheet: https://www.xppower.com/pdfs/SF_ITQ.pdf
pins: 1 -Vin, 2 +Vin, 3 OnOff, 5 NC hidden, 6 +Vout, 7 -Vout, 8 NC hidden

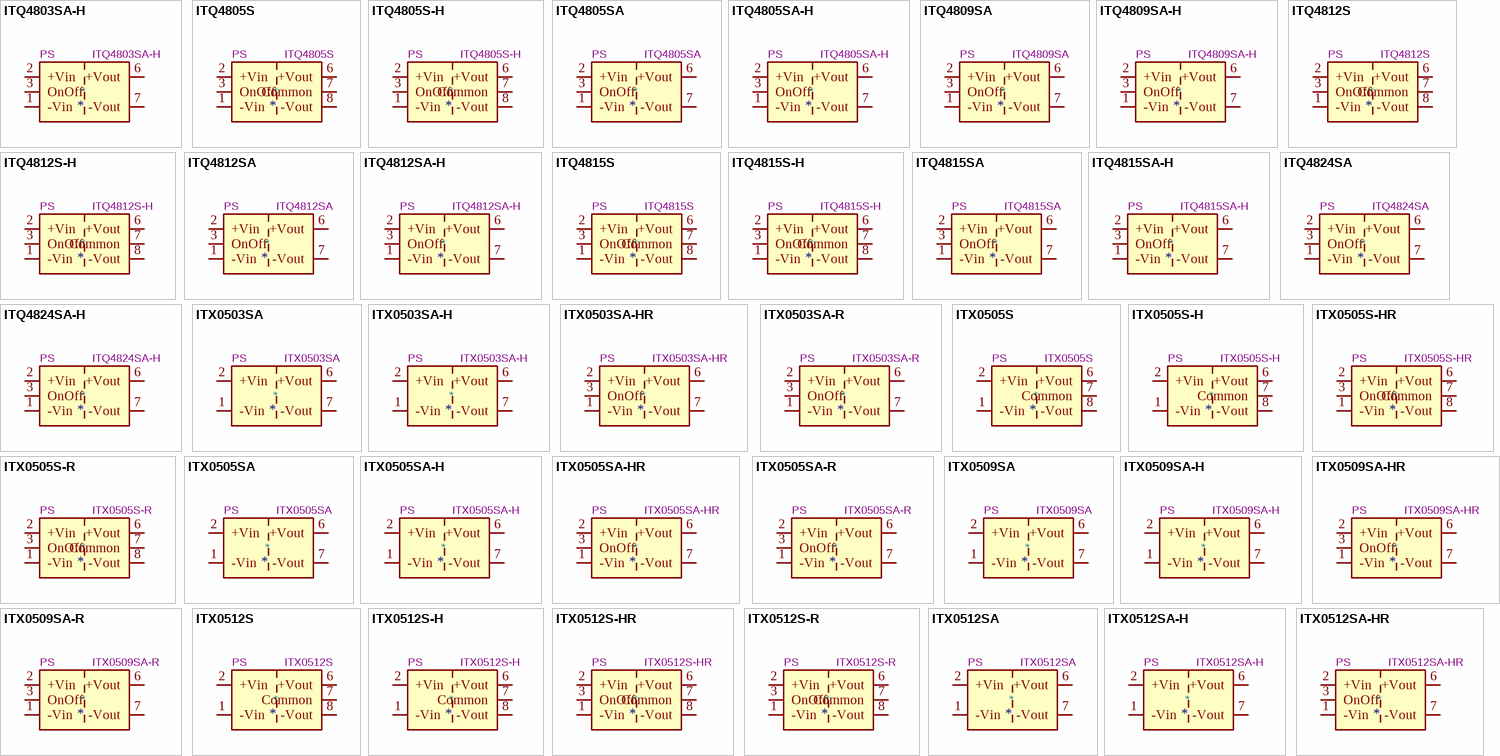
[diagram p5: symbols ITQ4803SA-H to ITX0512SA-HR]

## ITQ4803SA-H
designator *  value ITQ4803SA-H  Reference: PS
ki_keywords: XP_POWER DC/DC isolated Converter module; ki_description: XP Power 6W, 3000 VDC Isolated DC/DC Converter Module, Single Output Voltage 3.3V, ±1500mA, 48V Input Voltage, SIP; ki_fp_filters: *XP?POWER?ITQxxxxS?H*; Footprint: Converter_DCDC:Converter_DCDC_XP_POWER-ITQxxxxS-H_THT; Datasheet: https://www.xppower.com/pdfs/SF_ITQ.pdf
pins: 1 -Vin, 2 +Vin, 3 OnOff, 6 +Vout, 7 -Vout, 8 NC hidden

## ITQ4805S
designator *  value ITQ4805S  Reference: PS
ki_keywords: XP_POWER DC/DC isolated Converter module; ki_description: XP Power 6W, 1000 VDC Isolated DC/DC Converter Module, Dual Output Voltage ±5V, ±600mA, 48V Input Voltage, SIP; ki_fp_filters: *XP?POWER?ITxxxxx*; Footprint: Converter_DCDC:Converter_DCDC_XP_POWER-ITxxxxxS_THT; Datasheet: https://www.xppower.com/pdfs/SF_ITQ.pdf
pins: 1 -Vin, 2 +Vin, 3 OnOff, 5 NC hidden, 6 +Vout, 7 Common, 8 -Vout

## ITQ4805S-H
designator *  value ITQ4805S-H  Reference: PS
ki_keywords: XP_POWER DC/DC isolated Converter module; ki_description: XP Power 6W, 3000 VDC Isolated DC/DC Converter Module, Dual Output Voltage ±5V, ±600mA, 48V Input Voltage, SIP; ki_fp_filters: *XP?POWER?ITQxxxxS?H*; Footprint: Converter_DCDC:Converter_DCDC_XP_POWER-ITQxxxxS-H_THT; Datasheet: https://www.xppower.com/pdfs/SF_ITQ.pdf
pins: 1 -Vin, 2 +Vin, 3 OnOff, 6 +Vout, 7 Common, 8 -Vout

## ITQ4805SA
designator *  value ITQ4805SA  Reference: PS
ki_keywords: XP_POWER DC/DC isolated Converter module; ki_description: XP Power 6W, 1000 VDC Isolated DC/DC Converter Module, Single Output Voltage 5V, ±1200mA, 48V Input Voltage, SIP; ki_fp_filters: *XP?POWER?ITxxxxx*; Footprint: Converter_DCDC:Converter_DCDC_XP_POWER-ITxxxxxS_THT; Datasheet: https://www.xppower.com/pdfs/SF_ITQ.pdf
pins: 1 -Vin, 2 +Vin, 3 OnOff, 5 NC hidden, 6 +Vout, 7 -Vout, 8 NC hidden

## ITQ4805SA-H
designator *  value ITQ4805SA-H  Reference: PS
ki_keywords: XP_POWER DC/DC isolated Converter module; ki_description: XP Power 6W, 3000 VDC Isolated DC/DC Converter Module, Single Output Voltage 5V, ±1200mA, 48V Input Voltage, SIP; ki_fp_filters: *XP?POWER?ITQxxxxS?H*; Footprint: Converter_DCDC:Converter_DCDC_XP_POWER-ITQxxxxS-H_THT; Datasheet: https://www.xppower.com/pdfs/SF_ITQ.pdf
pins: 1 -Vin, 2 +Vin, 3 OnOff, 6 +Vout, 7 -Vout, 8 NC hidden

## ITQ4809SA
designator *  value ITQ4809SA  Reference: PS
ki_keywords: XP_POWER DC/DC isolated Converter module; ki_description: XP Power 6W, 1000 VDC Isolated DC/DC Converter Module, Single Output Voltage 9V, ±666mA, 48V Input Voltage, SIP; ki_fp_filters: *XP?POWER?ITxxxxx*; Footprint: Converter_DCDC:Converter_DCDC_XP_POWER-ITxxxxxS_THT; Datasheet: https://www.xppower.com/pdfs/SF_ITQ.pdf
pins: 1 -Vin, 2 +Vin, 3 OnOff, 5 NC hidden, 6 +Vout, 7 -Vout, 8 NC hidden

## ITQ4809SA-H
designator *  value ITQ4809SA-H  Reference: PS
ki_keywords: XP_POWER DC/DC isolated Converter module; ki_description: XP Power 6W, 3000 VDC Isolated DC/DC Converter Module, Single Output Voltage 9V, ±666mA, 48V Input Voltage, SIP; ki_fp_filters: *XP?POWER?ITQxxxxS?H*; Footprint: Converter_DCDC:Converter_DCDC_XP_POWER-ITQxxxxS-H_THT; Datasheet: https://www.xppower.com/pdfs/SF_ITQ.pdf
pins: 1 -Vin, 2 +Vin, 3 OnOff, 6 +Vout, 7 -Vout, 8 NC hidden

## ITQ4812S
designator *  value ITQ4812S  Reference: PS
ki_keywords: XP_POWER DC/DC isolated Converter module; ki_description: XP Power 6W, 1000 VDC Isolated DC/DC Converter Module, Dual Output Voltage ±12V, ±250mA, 48V Input Voltage, SIP; ki_fp_filters: *XP?POWER?ITxxxxx*; Footprint: Converter_DCDC:Converter_DCDC_XP_POWER-ITxxxxxS_THT; Datasheet: https://www.xppower.com/pdfs/SF_ITQ.pdf
pins: 1 -Vin, 2 +Vin, 3 OnOff, 5 NC hidden, 6 +Vout, 7 Common, 8 -Vout

## ITQ4812S-H
designator *  value ITQ4812S-H  Reference: PS
ki_keywords: XP_POWER DC/DC isolated Converter module; ki_description: XP Power 6W, 3000 VDC Isolated DC/DC Converter Module, Dual Output Voltage ±12V, ±250mA, 48V Input Voltage, SIP; ki_fp_filters: *XP?POWER?ITQxxxxS?H*; Footprint: Converter_DCDC:Converter_DCDC_XP_POWER-ITQxxxxS-H_THT; Datasheet: https://www.xppower.com/pdfs/SF_ITQ.pdf
pins: 1 -Vin, 2 +Vin, 3 OnOff, 6 +Vout, 7 Common, 8 -Vout

## ITQ4812SA
designator *  value ITQ4812SA  Reference: PS
ki_keywords: XP_POWER DC/DC isolated Converter module; ki_description: XP Power 6W, 1000 VDC Isolated DC/DC Converter Module, Single Output Voltage 12V, ±500mA, 48V Input Voltage, SIP; ki_fp_filters: *XP?POWER?ITxxxxx*; Footprint: Converter_DCDC:Converter_DCDC_XP_POWER-ITxxxxxS_THT; Datasheet: https://www.xppower.com/pdfs/SF_ITQ.pdf
pins: 1 -Vin, 2 +Vin, 3 OnOff, 5 NC hidden, 6 +Vout, 7 -Vout, 8 NC hidden

## ITQ4812SA-H
designator *  value ITQ4812SA-H  Reference: PS
ki_keywords: XP_POWER DC/DC isolated Converter module; ki_description: XP Power 6W, 3000 VDC Isolated DC/DC Converter Module, Single Output Voltage 12V, ±500mA, 48V Input Voltage, SIP; ki_fp_filters: *XP?POWER?ITQxxxxS?H*; Footprint: Converter_DCDC:Converter_DCDC_XP_POWER-ITQxxxxS-H_THT; Datasheet: https://www.xppower.com/pdfs/SF_ITQ.pdf
pins: 1 -Vin, 2 +Vin, 3 OnOff, 6 +Vout, 7 -Vout, 8 NC hidden

## ITQ4815S
designator *  value ITQ4815S  Reference: PS
ki_keywords: XP_POWER DC/DC isolated Converter module; ki_description: XP Power 6W, 1000 VDC Isolated DC/DC Converter Module, Dual Output Voltage ±15V, ±200mA, 48V Input Voltage, SIP; ki_fp_filters: *XP?POWER?ITxxxxx*; Footprint: Converter_DCDC:Converter_DCDC_XP_POWER-ITxxxxxS_THT; Datasheet: https://www.xppower.com/pdfs/SF_ITQ.pdf
pins: 1 -Vin, 2 +Vin, 3 OnOff, 5 NC hidden, 6 +Vout, 7 Common, 8 -Vout

## ITQ4815S-H
designator *  value ITQ4815S-H  Reference: PS
ki_keywords: XP_POWER DC/DC isolated Converter module; ki_description: XP Power 6W, 3000 VDC Isolated DC/DC Converter Module, Dual Output Voltage ±15V, ±200mA, 48V Input Voltage, SIP; ki_fp_filters: *XP?POWER?ITQxxxxS?H*; Footprint: Converter_DCDC:Converter_DCDC_XP_POWER-ITQxxxxS-H_THT; Datasheet: https://www.xppower.com/pdfs/SF_ITQ.pdf
pins: 1 -Vin, 2 +Vin, 3 OnOff, 6 +Vout, 7 Common, 8 -Vout

## ITQ4815SA
designator *  value ITQ4815SA  Reference: PS
ki_keywords: XP_POWER DC/DC isolated Converter module; ki_description: XP Power 6W, 1000 VDC Isolated DC/DC Converter Module, Single Output Voltage 15V, ±400mA, 48V Input Voltage, SIP; ki_fp_filters: *XP?POWER?ITxxxxx*; Footprint: Converter_DCDC:Converter_DCDC_XP_POWER-ITxxxxxS_THT; Datasheet: https://www.xppower.com/pdfs/SF_ITQ.pdf
pins: 1 -Vin, 2 +Vin, 3 OnOff, 5 NC hidden, 6 +Vout, 7 -Vout, 8 NC hidden

## ITQ4815SA-H
designator *  value ITQ4815SA-H  Reference: PS
ki_keywords: XP_POWER DC/DC isolated Converter module; ki_description: XP Power 6W, 3000 VDC Isolated DC/DC Converter Module, Single Output Voltage 15V, ±400mA, 48V Input Voltage, SIP; ki_fp_filters: *XP?POWER?ITQxxxxS?H*; Footprint: Converter_DCDC:Converter_DCDC_XP_POWER-ITQxxxxS-H_THT; Datasheet: https://www.xppower.com/pdfs/SF_ITQ.pdf
pins: 1 -Vin, 2 +Vin, 3 OnOff, 6 +Vout, 7 -Vout, 8 NC hidden

## ITQ4824SA
designator *  value ITQ4824SA  Reference: PS
ki_keywords: XP_POWER DC/DC isolated Converter module; ki_description: XP Power 6W, 1000 VDC Isolated DC/DC Converter Module, Single Output Voltage 24V, ±250mA, 48V Input Voltage, SIP; ki_fp_filters: *XP?POWER?ITxxxxx*; Footprint: Converter_DCDC:Converter_DCDC_XP_POWER-ITxxxxxS_THT; Datasheet: https://www.xppower.com/pdfs/SF_ITQ.pdf
pins: 1 -Vin, 2 +Vin, 3 OnOff, 5 NC hidden, 6 +Vout, 7 -Vout, 8 NC hidden

## ITQ4824SA-H
designator *  value ITQ4824SA-H  Reference: PS
ki_keywords: XP_POWER DC/DC isolated Converter module; ki_description: XP Power 6W, 3000 VDC Isolated DC/DC Converter Module, Single Output Voltage 24V, ±250mA, 48V Input Voltage, SIP; ki_fp_filters: *XP?POWER?ITQxxxxS?H*; Footprint: Converter_DCDC:Converter_DCDC_XP_POWER-ITQxxxxS-H_THT; Datasheet: https://www.xppower.com/pdfs/SF_ITQ.pdf
pins: 1 -Vin, 2 +Vin, 3 OnOff, 6 +Vout, 7 -Vout, 8 NC hidden

## ITX0503SA
designator *  value ITX0503SA  Reference: PS
ki_keywords: XP_POWER DC/DC isolated Converter module; ki_description: XP Power 6W, 1000 VDC Isolated DC/DC Converter Module, Fully Regulated Single Output Voltage 3.3V, ±1300mA, 5V Input Voltage, SIP; ki_fp_filters: *XP?POWER?ITXxxxxSA*; Footprint: Converter_DCDC:Converter_DCDC_XP_POWER-ITXxxxxSA_THT; Datasheet: https://www.xppower.com/pdfs/SF_ITX.pdf
pins: 1 -Vin, 2 +Vin, 6 +Vout, 7 -Vout, 8 NC hidden

## ITX0503SA-H
designator *  value ITX0503SA-H  Reference: PS
ki_keywords: XP_POWER DC/DC isolated Converter module; ki_description: XP Power 6W, 3000 VDC Isolated DC/DC Converter Module, Fully Regulated Single Output Voltage 3.3V, ±1300mA, 5V Input Voltage, SIP; ki_fp_filters: *XP?POWER?ITXxxxxSA*; Footprint: Converter_DCDC:Converter_DCDC_XP_POWER-ITXxxxxSA_THT; Datasheet: https://www.xppower.com/pdfs/SF_ITX.pdf
pins: 1 -Vin, 2 +Vin, 6 +Vout, 7 -Vout, 8 NC hidden

## ITX0503SA-HR
designator *  value ITX0503SA-HR  Reference: PS
ki_keywords: XP_POWER DC/DC isolated Converter module; ki_description: XP Power 6W, 3000 VDC Isolated DC/DC Converter Module, Remote Control, Fully Regulated Single Output Voltage 3.3V, ±1300mA, 5V Input Voltage, SIP; ki_fp_filters: *XP?POWER?ITxxxxx*; Footprint: Converter_DCDC:Converter_DCDC_XP_POWER-ITxxxxxS_THT; Datasheet: https://www.xppower.com/pdfs/SF_ITX.pdf
pins: 1 -Vin, 2 +Vin, 3 OnOff, 5 NC hidden, 6 +Vout, 7 -Vout, 8 NC hidden

## ITX0503SA-R
designator *  value ITX0503SA-R  Reference: PS
ki_keywords: XP_POWER DC/DC isolated Converter module; ki_description: XP Power 6W, 1000 VDC Isolated DC/DC Converter Module, Remote Control, Fully Regulated Single Output Voltage 3.3V, ±1300mA, 5V Input Voltage, SIP; ki_fp_filters: *XP?POWER?ITxxxxx*; Footprint: Converter_DCDC:Converter_DCDC_XP_POWER-ITxxxxxS_THT; Datasheet: https://www.xppower.com/pdfs/SF_ITX.pdf
pins: 1 -Vin, 2 +Vin, 3 OnOff, 5 NC hidden, 6 +Vout, 7 -Vout, 8 NC hidden

## ITX0505S
designator *  value ITX0505S  Reference: PS
ki_keywords: XP_POWER DC/DC isolated Converter module; ki_description: XP Power 6W, 1000 VDC Isolated DC/DC Converter Module, Fully Regulated Dual Output Voltage ±5V, ±600mA, 5V Input Voltage, SIP; ki_fp_filters: *XP?POWER?ITxxxxx*; Footprint: Converter_DCDC:Converter_DCDC_XP_POWER-ITxxxxxS_THT; Datasheet: https://www.xppower.com/pdfs/SF_ITX.pdf
pins: 1 -Vin, 2 +Vin, 3 NC hidden, 5 NC hidden, 6 +Vout, 7 Common, 8 -Vout